# EAGLE library part DS9503P (library lib_stankus)
Maxim DS9503P Farnell #1422278
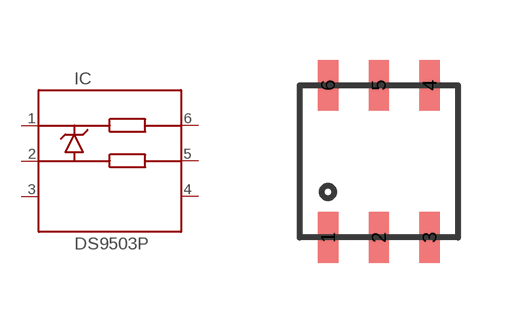
[diagram p71: symbol with the pads of TSOC6; footprint TSOC6]

Designator prefix IC

## DS9503P-TSOC6  [TSOC6]
1  1  pas
2  2  pas
3  3  nc
4  4  nc
5  5  pas
6  6  pas

## Footprint TSOC6 (pad centres in mm)
TSOC6
smd 0.508 x 1.27: 1 -1.27,-1.905; 2 0,-1.905; 3 1.27,-1.905; 4 1.27,1.905; 5 0,1.905; 6 -1.27,1.905